# EAGLE library part SAMTEC_ASP-122952-01 (library junior)
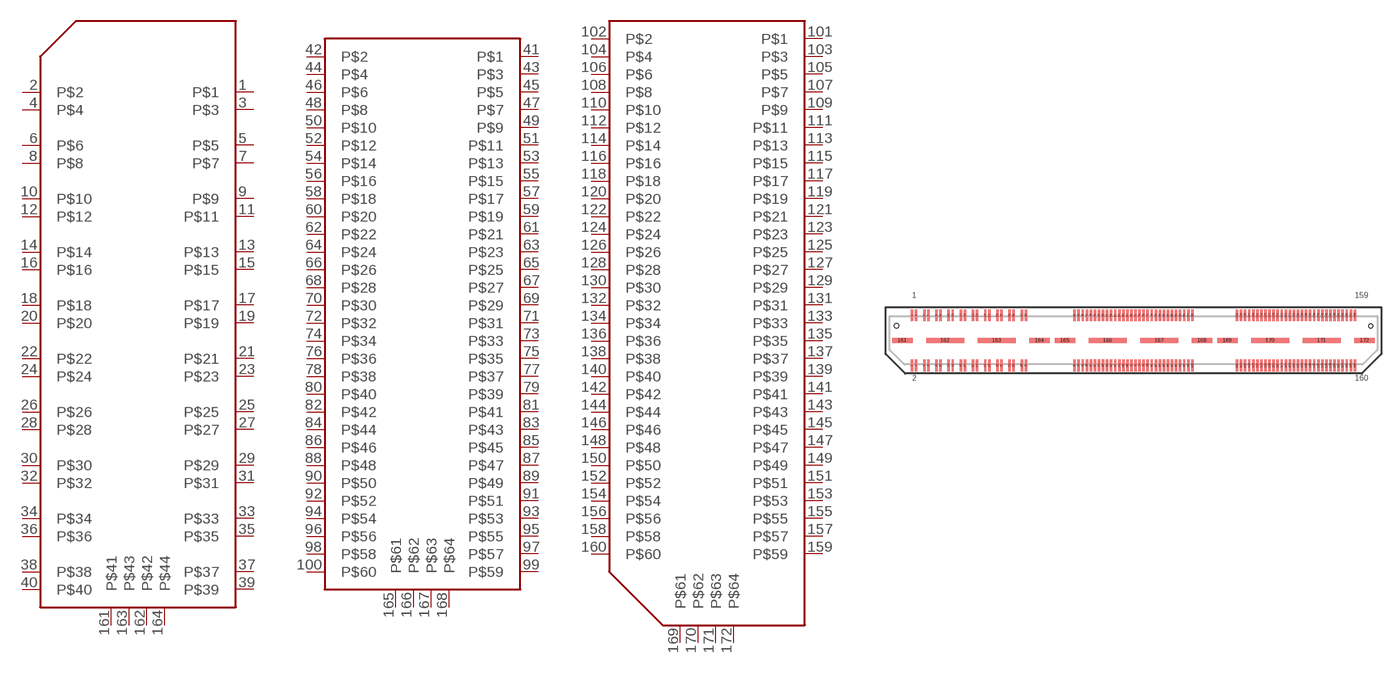
[diagram p0: symbol with the pads of ASP-122952-01; footprint ASP-122952-01]

Designator prefix -; gates G$1=ASP-122952-01 G$2=ASP-122952-02 G$3=ASP-122952-03

## SAMTEC_ASP-122952-01  [ASP-122952-01]
1  G$1:P$1
2  G$1:P$2
3  G$1:P$3
4  G$1:P$4
5  G$1:P$5
6  G$1:P$6
7  G$1:P$7
8  G$1:P$8
9  G$1:P$9
10  G$1:P$10
11  G$1:P$11
12  G$1:P$12
13  G$1:P$13
14  G$1:P$14
15  G$1:P$15
16  G$1:P$16
17  G$1:P$17
18  G$1:P$18
19  G$1:P$19
20  G$1:P$20
21  G$1:P$21
22  G$1:P$22
23  G$1:P$23
24  G$1:P$24
25  G$1:P$25
26  G$1:P$26
27  G$1:P$27
28  G$1:P$28
29  G$1:P$29
30  G$1:P$30
31  G$1:P$31
32  G$1:P$32
33  G$1:P$33
34  G$1:P$34
35  G$1:P$35
36  G$1:P$36
37  G$1:P$37
38  G$1:P$38
39  G$1:P$39
40  G$1:P$40
41  G$2:P$1
42  G$2:P$2
43  G$2:P$3
44  G$2:P$4
45  G$2:P$5
46  G$2:P$6
47  G$2:P$7
48  G$2:P$8
49  G$2:P$9
50  G$2:P$10
51  G$2:P$11
52  G$2:P$12
53  G$2:P$13
54  G$2:P$14
55  G$2:P$15
56  G$2:P$16
57  G$2:P$17
58  G$2:P$18
59  G$2:P$19
60  G$2:P$20
61  G$2:P$21
62  G$2:P$22
63  G$2:P$23
64  G$2:P$24
65  G$2:P$25
66  G$2:P$26
67  G$2:P$27
68  G$2:P$28
69  G$2:P$29
70  G$2:P$30
71  G$2:P$31
72  G$2:P$32
73  G$2:P$33
74  G$2:P$34
75  G$2:P$35
76  G$2:P$36
77  G$2:P$37
78  G$2:P$38
79  G$2:P$39
80  G$2:P$40
81  G$2:P$41
82  G$2:P$42
83  G$2:P$43
84  G$2:P$44
85  G$2:P$45
86  G$2:P$46
87  G$2:P$47
88  G$2:P$48
89  G$2:P$49
90  G$2:P$50
91  G$2:P$51
92  G$2:P$52
93  G$2:P$53
94  G$2:P$54
95  G$2:P$55
96  G$2:P$56
97  G$2:P$57
98  G$2:P$58
99  G$2:P$59
100  G$2:P$60
101  G$3:P$1
102  G$3:P$2
103  G$3:P$3
104  G$3:P$4
105  G$3:P$5
106  G$3:P$6
107  G$3:P$7
108  G$3:P$8
109  G$3:P$9
110  G$3:P$10
111  G$3:P$11
112  G$3:P$12
113  G$3:P$13
114  G$3:P$14
115  G$3:P$15
116  G$3:P$16
117  G$3:P$17
118  G$3:P$18
119  G$3:P$19
120  G$3:P$20
121  G$3:P$21
122  G$3:P$22
123  G$3:P$23
124  G$3:P$24
125  G$3:P$25
126  G$3:P$26
127  G$3:P$27
128  G$3:P$28
129  G$3:P$29
130  G$3:P$30
131  G$3:P$31
132  G$3:P$32
133  G$3:P$33
134  G$3:P$34
135  G$3:P$35
136  G$3:P$36
137  G$3:P$37
138  G$3:P$38
139  G$3:P$39
140  G$3:P$40
141  G$3:P$41
142  G$3:P$42
143  G$3:P$43
144  G$3:P$44
145  G$3:P$45
146  G$3:P$46
147  G$3:P$47
148  G$3:P$48
149  G$3:P$49
150  G$3:P$50
151  G$3:P$51
152  G$3:P$52
153  G$3:P$53
154  G$3:P$54
155  G$3:P$55
156  G$3:P$56
157  G$3:P$57
158  G$3:P$58
159  G$3:P$59
160  G$3:P$60
161  G$1:P$41
162  G$1:P$42
163  G$1:P$43
164  G$1:P$44
165  G$2:P$61
166  G$2:P$62
167  G$2:P$63
168  G$2:P$64
169  G$3:P$61
170  G$3:P$62
171  G$3:P$63
172  G$3:P$64

## Footprint ASP-122952-01 (pad centres in mm)
smd 0.3 x 1.45: 1 -27.25,3.09; 2 -27.25,-3.09; 3 -26.75,3.09; 4 -26.75,-3.09; 5 -25.75,3.09; 6 -25.75,-3.09; 7 -25.25,3.09; 8 -25.25,-3.09; 9 -24.25,3.09; 10 -24.25,-3.09; 11 -23.75,3.09; 12 -23.75,-3.09; 13 -22.75,3.09; 14 -22.75,-3.09; 15 -22.25,3.09; 16 -22.25,-3.09; 17 -21.25,3.09; 18 -21.25,-3.09; 19 -20.75,3.09; 20 -20.75,-3.09; 21 -19.75,3.09; 22 -19.75,-3.09; 23 -19.25,3.09; 24 -19.25,-3.09; 25 -18.25,3.09; 26 -18.25,-3.09; 27 -17.75,3.09; 28 -17.75,-3.09; 29 -16.75,3.09; 30 -16.75,-3.09; 31 -16.25,3.09; 32 -16.25,-3.09; 33 -15.25,3.09; 34 -15.25,-3.09; 35 -14.75,3.09; 36 -14.75,-3.09; 37 -13.75,3.09; 38 -13.75,-3.09; 39 -13.25,3.09; 40 -13.25,-3.09; 41 -7.25,3.09; 42 -7.25,-3.09; 43 -6.75,3.09; 44 -6.75,-3.09; 45 -6.25,3.09; 46 -6.25,-3.09; 47 -5.75,3.09; 48 -5.75,-3.09; 49 -5.25,3.09; 50 -5.25,-3.09; 51 -4.75,3.09; 52 -4.75,-3.09; 53 -4.25,3.09; 54 -4.25,-3.09; 55 -3.75,3.09; 56 -3.75,-3.09; 57 -3.25,3.09; 58 -3.25,-3.09; 59 -2.75,3.09; 60 -2.75,-3.09; 61 -2.25,3.09; 62 -2.25,-3.09; 63 -1.75,3.09; 64 -1.75,-3.09; 65 -1.25,3.09; 66 -1.25,-3.09; 67 -0.75,3.09; 68 -0.75,-3.09; 69 -0.25,3.09; 70 -0.25,-3.09; 71 0.25,3.09; 72 0.25,-3.09; 73 0.75,3.09; 74 0.75,-3.09; 75 1.25,3.09; 76 1.25,-3.09; 77 1.75,3.09; 78 1.75,-3.09; 79 2.25,3.09; 80 2.25,-3.09; 81 2.75,3.09; 82 2.75,-3.09; 83 3.25,3.09; 84 3.25,-3.09; 85 3.75,3.09; 86 3.75,-3.09; 87 4.25,3.09; 88 4.25,-3.09; 89 4.75,3.09; 90 4.75,-3.09; 91 5.25,3.09; 92 5.25,-3.09; 93 5.75,3.09; 94 5.75,-3.09; 95 6.25,3.09; 96 6.25,-3.09; 97 6.75,3.09; 98 6.75,-3.09; 99 7.25,3.09; 100 7.25,-3.09; 101 12.75,3.09; 102 12.75,-3.09; 103 13.25,3.09; 104 13.25,-3.09; 105 13.75,3.09; 106 13.75,-3.09; 107 14.25,3.09; 108 14.25,-3.09; 109 14.75,3.09; 110 14.75,-3.09; 111 15.25,3.09; 112 15.25,-3.09; 113 15.75,3.09; 114 15.75,-3.09; 115 16.25,3.09; 116 16.25,-3.09; 117 16.75,3.09; 118 16.75,-3.09; 119 17.25,3.09; 120 17.25,-3.09; 121 17.75,3.09; 122 17.75,-3.09; 123 18.25,3.09; 124 18.25,-3.09; 125 18.75,3.09; 126 18.75,-3.09; 127 19.25,3.09; 128 19.25,-3.09; 129 19.75,3.09; 130 19.75,-3.09; 131 20.25,3.09; 132 20.25,-3.09; 133 20.75,3.09; 134 20.75,-3.09; 135 21.25,3.09; 136 21.25,-3.09; 137 21.75,3.09; 138 21.75,-3.09; 139 22.25,3.09; 140 22.25,-3.09; 141 22.75,3.09; 142 22.75,-3.09; 143 23.25,3.09; 144 23.25,-3.09; 145 23.75,3.09; 146 23.75,-3.09; 147 24.25,3.09; 148 24.25,-3.09; 149 24.75,3.09; 150 24.75,-3.09; 151 25.25,3.09; 152 25.25,-3.09; 153 25.75,3.09; 154 25.75,-3.09; 155 26.25,3.09; 156 26.25,-3.09; 157 26.75,3.09; 158 26.75,-3.09; 159 27.25,3.09; 160 27.25,-3.09
smd 2.54 x 0.64: 161 -28.445,0; 164 -11.555,0; 165 -8.445,0; 168 8.445,0; 169 11.555,0; 172 28.445,0
smd 4.7 x 0.64: 162 -23.175,0; 163 -16.825,0; 166 -3.175,0; 167 3.175,0; 170 16.825,0; 171 23.175,0